# EAGLE library part ISO1540DR (library NervousSys_V1)
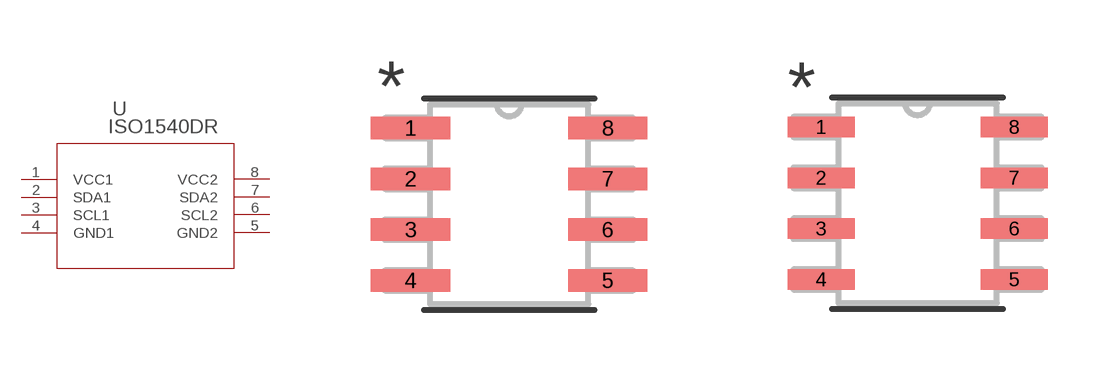
[diagram p1: symbol with the pads of D8; footprints D8, D8-L]

Designator prefix U

## ISO1540DR (MANUFACTURER_PART_NUMBER: ISO1540DR; VENDOR: Texas Instruments)  [D8]
1  VCC1  pwr
2  SDA1
3  SCL1
4  GND1  pwr
5  GND2  pwr
6  SCL2
7  SDA2
8  VCC2  pwr

## ISO1540DRD8-L (MANUFACTURER_PART_NUMBER: ISO1540DR; VENDOR: Texas Instruments)  [D8-L]
Pads as for D8

## ISO1540DRD8-M (MANUFACTURER_PART_NUMBER: ISO1540DR; VENDOR: Texas Instruments)  [D8-M]
Pads as for D8

## Footprint D8 (pad centres in mm)
smd 1.981 x 0.559: 1 -2.464,1.905; 2 -2.464,0.635; 3 -2.464,-0.635; 4 -2.464,-1.905; 5 2.464,-1.905; 6 2.464,-0.635; 7 2.464,0.635; 8 2.464,1.905

## Footprint D8-L (pad centres in mm)
smd 1.676 x 0.508: 1 -2.413,1.905; 2 -2.413,0.635; 3 -2.413,-0.635; 4 -2.413,-1.905; 5 2.413,-1.905; 6 2.413,-0.635; 7 2.413,0.635; 8 2.413,1.905

## Footprint D8-M (pad centres in mm)
smd 2.286 x 0.61: 1 -2.515,1.905; 2 -2.515,0.635; 3 -2.515,-0.635; 4 -2.515,-1.905; 5 2.515,-1.905; 6 2.515,-0.635; 7 2.515,0.635; 8 2.515,1.905